# Altium schematic symbol library A6HF-2102-PM.SchLib: 1 symbol
Pins are listed as number, name and electrical type; pins without a type are passive.

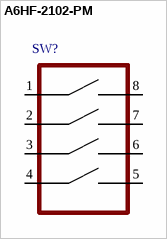
[diagram p0: symbol A6HF-2102-PM]

## A6HF-2102-PM
designator SW?
pins: 1, 2, 3, 4, 5, 6, 7, 8